# Altium schematic symbol library RESISTOR_AC0603JR-7W10KL.SchLib: 1 symbol
Pins are listed as number, name and electrical type; pins without a type are passive.

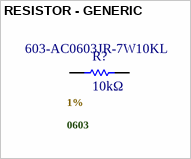
[diagram p0: symbol RESISTOR - GENERIC]

## RESISTOR - GENERIC
designator R?, comment 10kΩ  Supplier Part Number: 603-AC0603JR-7W10KL  .Case/Package: 0603  .Tolerance: 1%
Fixed Resistor, Metal Glaze/thick Film, 0.2W, 10000ohm, 75V, 5% +/-Tol, 100ppm/Cel, Surface Mount, 0603; Manufacturer: Yageo Group; Manufacturer Part Number: AC0603JR-7W68RL; Power Dissipation: 200mW; Temperature Coefficient: 100ppm/°C; Supplier 1: Mouser; RoHS: Compliant; Category: Chip SMD Resistors; Stock 1: 63636; Pricing 1: 1=0,16, 10=0,016, 50=0,016, 100=0,013, 1000=0,013, 10000=0,009 (USD); Case/Package: 0603; China RoHS: Non-Compliant; Composition: Thick Film; Height: 450µm; Lifecycle Status: Production; Max Operating Temperature: 155°C; Min Operating Temperature: -55°C; Mount: Surface Mount; Number of Terminals: 2; Packaging: Tape & Reel; Power Rating: 200mW; REACH SVHC: Yes; Tolerance: 1%; Voltage Rating: 75V; Width: 800µm; Working Voltage: 75V; ComponentLink4URL: http://sigma.octopart.com:80/rohs_statement/Yageo-company-2.pdf?src-supplier=Compliance+Statements; ComponentLink4Description: http://sigma.octopart.com:80/rohs_statement/Yageo-company-2.pdf?src-supplier=Compliance+Statements; Supplier: DigiKey; Pricing: 5000=0,0055 (USD); Mounting Technology: Surface Mount; ComponentLink6URL: https://datasheet.octopart.com:443/AC0603JR-7W68RL-Yageo-datasheet-182189377.pdf?src-supplier=IHS; ComponentLink6Description: https://datasheet.octopart.com:443/AC0603JR-7W68RL-Yageo-datasheet-182189377.pdf?src-supplier=IHS; ComponentLink7URL: https://datasheet.octopart.com:443/AC0603JR-7W68RL-Yageo-datasheet-86786639.pdf?src-supplier=Upverter; ComponentLink7Description: https://datasheet.octopart.com:443/AC0603JR-7W68RL-Yageo-datasheet-86786639.pdf?src-supplier=Upverter; ComponentLink8URL: https://datasheet.octopart.com/AC0603JR-7W68RL-Yageo-datasheet-12512238.pdf; ComponentLink8Description: https://datasheet.octopart.com/AC0603JR-7W68RL-Yageo-datasheet-12512238.pdf; ComponentLink1URL: https://datasheet.octopart.com:443/AC0603JR-7W68RL-Yageo-datasheet-182189377.pdf?src-supplier=IHS; ComponentLink1Description: https://datasheet.octopart.com:443/AC0603JR-7W68RL-Yageo-datasheet-182189377.pdf?src-supplier=IHS; ComponentLink2URL: https://datasheet.octopart.com:443/AC0603JR-7W68RL-Yageo-datasheet-86786639.pdf?src-supplier=Upverter; ComponentLink2Description: https://datasheet.octopart.com:443/AC0603JR-7W68RL-Yageo-datasheet-86786639.pdf?src-supplier=Upverter; ComponentLink3URL: https://datasheet.octopart.com/AC0603JR-7W68RL-Yageo-datasheet-12512238.pdf; ComponentLink3Description: https://datasheet.octopart.com/AC0603JR-7W68RL-Yageo-datasheet-12512238.pdf; ComponentLink5URL: http://sigma.octopart.com:80/conflict_mineral_statement/Yageo-company-3.pdf?src-supplier=Compliance+Statements; ComponentLink5Description: http://sigma.octopart.com:80/conflict_mineral_statement/Yageo-company-3.pdf?src-supplier=Compliance+Statements; Stock: 26687; ComponentLink9URL: https://datasheet.octopart.com:443/AC0603FR-7W10RL-Yageo-datasheet-182189377.pdf?src-supplier=IHS; ComponentLink9Description: https://datasheet.octopart.com:443/AC0603FR-7W10RL-Yageo-datasheet-182189377.pdf?src-supplier=IHS; ComponentLink10URL: https://datasheet.octopart.com:443/AC0603FR-7W10RL-Yageo-datasheet-86786639.pdf?src-supplier=Upverter; ComponentLink10Description: https://datasheet.octopart.com:443/AC0603FR-7W10RL-Yageo-datasheet-86786639.pdf?src-supplier=Upverter; ComponentLink11URL: https://datasheet.octopart.com/AC0603FR-7W10RL-Yageo-datasheet-12512238.pdf; ComponentLink11Description: https://datasheet.octopart.com/AC0603FR-7W10RL-Yageo-datasheet-12512238.pdf; Resistance: 10kΩ; ComponentLink12URL: https://datasheet.octopart.com:443/AC0603JR-7W10KL-Yageo-datasheet-182189377.pdf?src-supplier=IHS; ComponentLink12Description: https://datasheet.octopart.com:443/AC0603JR-7W10KL-Yageo-datasheet-182189377.pdf?src-supplier=IHS; ComponentLink13URL: https://datasheet.octopart.com:443/AC0603JR-7W10KL-Yageo-datasheet-86786639.pdf?src-supplier=Upverter; ComponentLink13Description: https://datasheet.octopart.com:443/AC0603JR-7W10KL-Yageo-datasheet-86786639.pdf?src-supplier=Upverter; ComponentLink14URL: https://datasheet.octopart.com:443/AC0603JR-7W10KL-Yageo-datasheet-166720450.pdf?src-supplier=Future+Electronics; ComponentLink14Description: https://datasheet.octopart.com:443/AC0603JR-7W10KL-Yageo-datasheet-166720450.pdf?src-supplier=Future+Electronics; ComponentLink15URL: https://datasheet.octopart.com:443/AC0603JR-7W10KL-Yageo-datasheet-151884373.pdf?src-supplier=Future+Electronics; ComponentLink15Description: https://datasheet.octopart.com:443/AC0603JR-7W10KL-Yageo-datasheet-151884373.pdf?src-supplier=Future+Electronics; ComponentLink16URL: https://datasheet.octopart.com:443/AC0603JR-7W10KL-Yageo-datasheet-137699919.pdf?src-supplier=Future+Electronics; ComponentLink16Description: https://datasheet.octopart.com:443/AC0603JR-7W10KL-Yageo-datasheet-137699919.pdf?src-supplier=Future+Electronics; ComponentLink17URL: https://datasheet.octopart.com/AC0603JR-7W10KL-Yageo-datasheet-12512238.pdf; ComponentLink17Description: https://datasheet.octopart.com/AC0603JR-7W10KL-Yageo-datasheet-12512238.pdf
footprint R0603 - YAGEO
pins: 1, 2